# Altium schematic symbol library Capacitor_NP.SchLib: 1 symbol
Pins are listed as number, name and electrical type; pins without a type are passive.

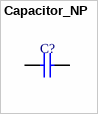
[diagram p0: symbol Capacitor_NP]

## Capacitor_NP
designator C?
pins: 1, 2